# Altium schematic symbol library BAT68.SchLib: 1 symbol
Pins are listed as number, name and electrical type; pins without a type are passive.

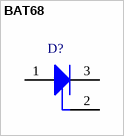
[diagram p0: symbol BAT68]

## BAT68
designator D?
Single Silicon Schottky Diode, 130 mA IF Max, SOT23, Green; Manufacturer: Infineon; PartNumber: BAT68; CT (typ): 0.75 pF; Green: yes; Group: RF Signal Detection + Power Leveling; IF (max): 130 mA; VF (typ): 0.318 V; VR (max): 8 V; DatasheetVersion: Jun-2011; PackageReference: SOT23; PackageDescription: 3-Pin Small Outline Transistor Package, 1.3 x 2.9 mm Body, 0.95 mm Pitch; Configuration: Single; Mounting Technology: Surface Mount; ComponentLink1Description: Manufacturer URL; ComponentLink1URL: http://www.infineon.com/; ComponentLink2Description: Datasheet; ComponentLink2URL: http://www.infineon.com/dgdl/bat68series.pdf?folderId=db3a304314dca389011518104e5d0df2&fileId=db3a304314dca38901151819a1ab0df5&location=en.Products.RF.RF_Mixer___Detector_Schottky_Diodes.DATASHEET.bat68series.pdf; ComponentLink3Description: Package Specification; ComponentLink3URL: http://www.infineon.com/dgdl/SOT23-Package_Overview.pdf?folderId=db3a30431936bc4b0119532290053c66&fileId=db3a30431936bc4b0119533468123c85
footprint INF-SOT23_N (SOT23, 3-Leads, Body 2.9x1.3 mm, Pitch 0.95 mm, IPC Medium Density)
footprint INF-SOT23_L (SOT23, 3-Leads, Body 2.9x1.3 mm, Pitch 0.95 mm, IPC High Density)
footprint INF-SOT23_M (SOT23, 3-Leads, Body 2.9x1.3 mm, Pitch 0.95 mm, IPC Low Density)
pins: 1 A, 2 NC, 3 K